# EAGLE library part ATTINY2313A-SUR (library microcontrollers-atmel)
Attiny2313 AVR microcontroller with 2Kbytes in-system programmable flash. Device not tested!
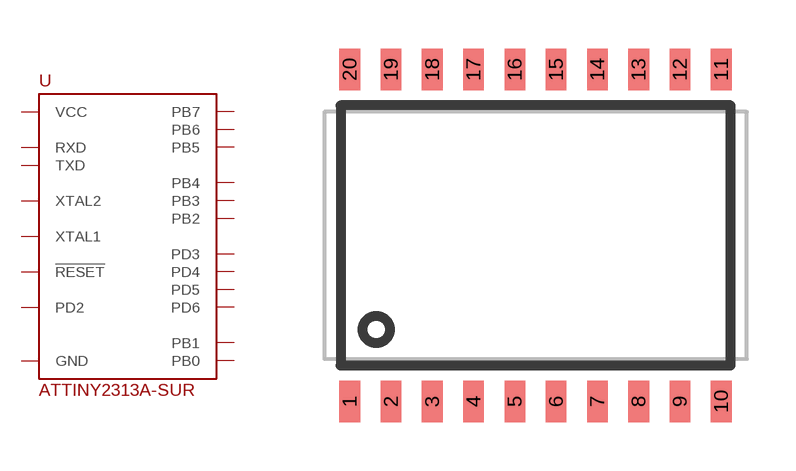
[diagram p0: symbol with the pads of 20S; footprint 20S]

Designator prefix U

## ATTINY2313A-SUR (DIGIKEYPART#: ATTINY2313A-SURCT-ND)  [20S]
1  !RESET
2  RXD
3  TXD
4  XTAL2
5  XTAL1
6  PD2
7  PD3
8  PD4
9  PD5
10  GND  pwr
11  PD6
12  PB0
13  PB1
14  PB2
15  PB3
16  PB4
17  PB5
18  PB6
19  PB7
20  VCC  pwr

## Footprint 20S (pad centres in mm)
Untested Footprint. 20 pin 0.300" wide body, SOIC package
smd 0.635 x 1.27: 1 -5.715,-5.107; 2 -4.445,-5.107; 3 -3.175,-5.107; 4 -1.905,-5.107; 5 -0.635,-5.107; 6 0.635,-5.107; 7 1.905,-5.107; 8 3.175,-5.107; 9 4.445,-5.107; 10 5.715,-5.107; 11 5.715,5.107; 12 4.445,5.107; 13 3.175,5.107; 14 1.905,5.107; 15 0.635,5.107; 16 -0.635,5.107; 17 -1.905,5.107; 18 -3.175,5.107; 19 -4.445,5.107; 20 -5.715,5.107